# Altium footprint library IDC_10PINS_SideEntry_THT.PcbLib: 1 footprints
Each footprint in its own frame and in the unit in brackets; x right, y up, seen from the top. Pads: shape width x height; smd on the part's side, far side on the other; paste and mask are expansions set on the pad; w line width, h text height; cw(c..) or ccw(c..) is an arc to the next point about the centre after c.
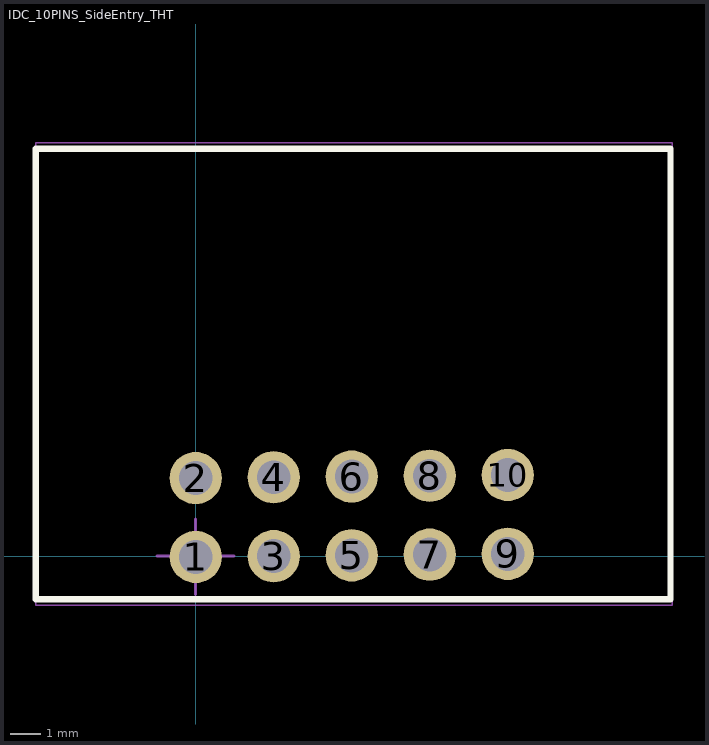
[diagram p0: the footprint, top view; thin cyan lines are the x and y axes]

## IDC_10PINS_SideEntry_THT [mm] "3 Position Terminal Block Header, Male Pins, 3.5mm Pitch,11.9x9.2mm Body, 90°, Right Angle, THT"
height 7.4
pads (10):
  round 1.7 hole 1.1: 1(0.003,-0.025) 2(0,2.54) 3(2.54,0) 4(2.537,2.565) 5(5.077,0.025) 6(5.075,2.59) 7(7.615,0.05) 8(7.612,2.615) 9(10.152,0.075) 10(10.15,2.64)
Top Overlay:
  lines w0.2: -5.2,-1.4 -5.2,13.25 15.45,13.25 15.45,-1.4 -5.2,-1.4
Mechanical 13:
  lines w0.1: -5.15,-1.4 -5.15,13.25 15.45,13.25 15.45,-1.4 -5.15,-1.4
Mechanical 15 (Mech15):
  lines w0.05: -5.2,-1.6 -5.2,13.45 15.5,13.45 15.5,-1.6 -5.2,-1.6
  lines w0.1: -1.25,0 0,0 ; 0,-1.25 0,0 ; 0,1.2 0,0 ; 1.25,0 0,0
3D body "3020-10-0200-00 3D.STEP": height 9.42, standoff -3.05, extent -5.082,-0.28 15.238,13.22